# EAGLE library part 68710814022 (library Eagle_FPC_CONNECTOR_AND_FFC_CAB (rev18c))
WR-FPC 0.5mm SMT ZIF Horizontal Top Contact, 8 Pins=>Code : Con_FPC_ZIF_0.50_68710814022 <http://katalog.we-online.de/media/images/eican/Con_FPC_ZIF_0.50_6871xx14022_pf2.jpg> Details see: http://katalog.we-online.de/en/em/687_1xx_140_22 Created 2014-07-09, Karrer Zheng 2014 (C) Würth Elektronik
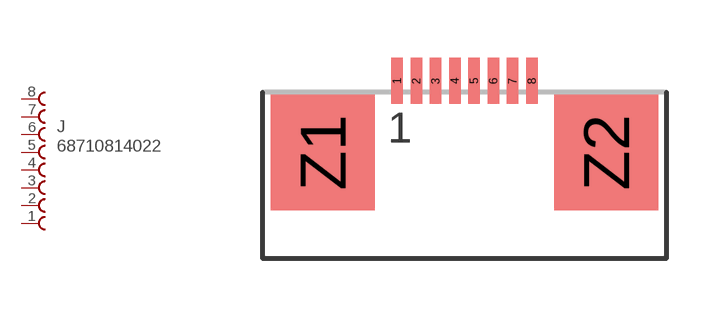
[diagram p17: symbol with the pads of 68710814022; footprint 68710814022]

Designator prefix J

## 68710814022  [68710814022]
1  8  pas
2  7  pas
3  6  pas
4  5  pas
5  4  pas
6  3  pas
7  2  pas
8  1  pas

## Footprint 68710814022 (pad centres in mm)
WR-FPC 0.5mm SMT ZIF Horizontal Top Contact, 8 Pins
smd 0.3 x 1.2: 1 -1.75,1.86; 2 -1.25,1.86; 3 -0.75,1.86; 4 -0.25,1.86; 5 0.25,1.86; 6 0.75,1.86; 7 1.25,1.86; 8 1.75,1.86
smd 2.7 x 3: Z1 -3.68,0; Z2 3.68,0